# Altium schematic symbol library SCH - MCU - ATSAM - MICROCHIP SAMD10D14A-UU WLCSP20.SchLib: 1 symbol
Pins are listed as number, name and electrical type; pins without a type are passive.

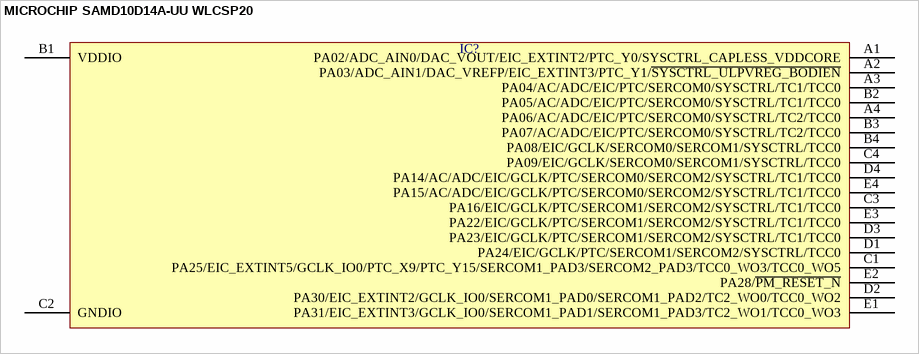
[diagram p0: symbol MICROCHIP SAMD10D14A-UU WLCSP20]

## MICROCHIP SAMD10D14A-UU WLCSP20
designator IC?  (value not drawn)
pins: A1 PA02/ADC_AIN0/DAC_VOUT/EIC_EXTINT2/PTC_Y0/SYSCTRL_CAPLESS_VDDCORE, A2 PA03/ADC_AIN1/DAC_VREFP/EIC_EXTINT3/PTC_Y1/~{SYSCTRL_ULPVREG_BODIEN}, A3 PA04/AC/ADC/EIC/PTC/SERCOM0/SYSCTRL/TC1/TCC0, A4 PA06/AC/ADC/EIC/PTC/SERCOM0/SYSCTRL/TC2/TCC0, B1 VDDIO, B2 PA05/AC/ADC/EIC/PTC/SERCOM0/SYSCTRL/TC1/TCC0, B3 PA07/AC/ADC/EIC/PTC/SERCOM0/SYSCTRL/TC2/TCC0, B4 PA08/EIC/GCLK/SERCOM0/SERCOM1/SYSCTRL/TCC0, C1 PA25/EIC_EXTINT5/GCLK_IO0/PTC_X9/PTC_Y15/SERCOM1_PAD3/SERCOM2_PAD3/TCC0_WO3/TCC0_WO5, C2 GNDIO, C3 PA16/EIC/GCLK/PTC/SERCOM1/SERCOM2/SYSCTRL/TC1/TCC0, C4 PA09/EIC/GCLK/SERCOM0/SERCOM1/SYSCTRL/TCC0, D1 PA24/EIC/GCLK/PTC/SERCOM1/SERCOM2/SYSCTRL/TCC0, D2 PA30/EIC_EXTINT2/GCLK_IO0/SERCOM1_PAD0/SERCOM1_PAD2/TC2_WO0/TCC0_WO2, D3 PA23/EIC/GCLK/PTC/SERCOM1/SERCOM2/SYSCTRL/TC1/TCC0, D4 PA14/AC/ADC/EIC/GCLK/PTC/SERCOM0/SERCOM2/SYSCTRL/TC1/TCC0, E1 PA31/EIC_EXTINT3/GCLK_IO0/SERCOM1_PAD1/SERCOM1_PAD3/TC2_WO1/TCC0_WO3, E2 PA28/~{PM_RESET_N}, E3 PA22/EIC/GCLK/PTC/SERCOM1/SERCOM2/SYSCTRL/TC1/TCC0, E4 PA15/AC/ADC/EIC/GCLK/PTC/SERCOM0/SERCOM2/SYSCTRL/TC1/TCC0